# Altium schematic symbol library SCH - RF - VCO - AD HMC431LP4.SCHLIB: 1 symbol
Pins are listed as number, name and electrical type; pins without a type are passive.

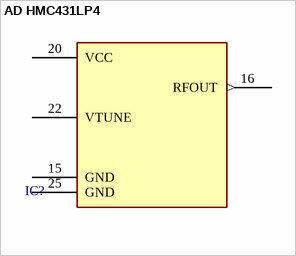
[diagram p0: symbol AD HMC431LP4]

## AD HMC431LP4
designator IC?
pins: 15 GND (power), 16 RFOUT (out), 20 VCC (power), 22 VTUNE, 25 GND (power)